# EAGLE library part 090814-0806 (library SMORSE_Chao)
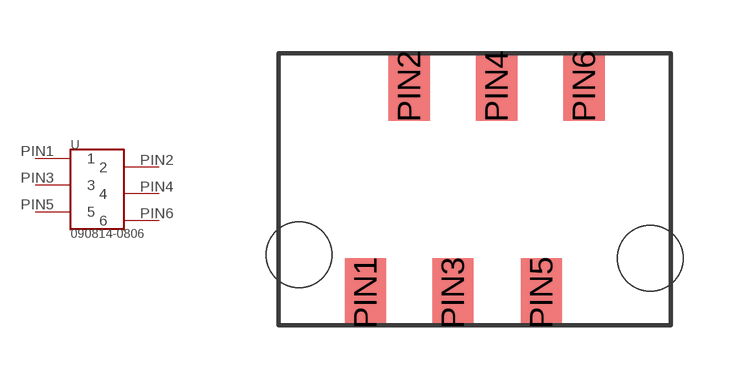
[diagram p20: symbol with the pads of 090814-0806; footprint 090814-0806]

Designator prefix -

## 090814-0806  [090814-0806]
PIN1  1  pas
PIN2  2  pas
PIN3  3  pas
PIN4  4  pas
PIN5  5  pas
PIN6  6  pas

## Footprint 090814-0806 (pad centres in mm)
smd 1.2 x 2: PIN1 -3.17,-3; PIN2 -1.9,3; PIN3 -0.63,-3; PIN4 0.64,3; PIN5 1.94,-3; PIN6 3.18,3
hole 1.9 at -5.1,-1.9
hole 1.9 at 5.1,-2